# Altium schematic symbol library J.SchLib: 141 symbols (part 1 of 2)
Pins are listed as number, name and electrical type; pins without a type are passive.

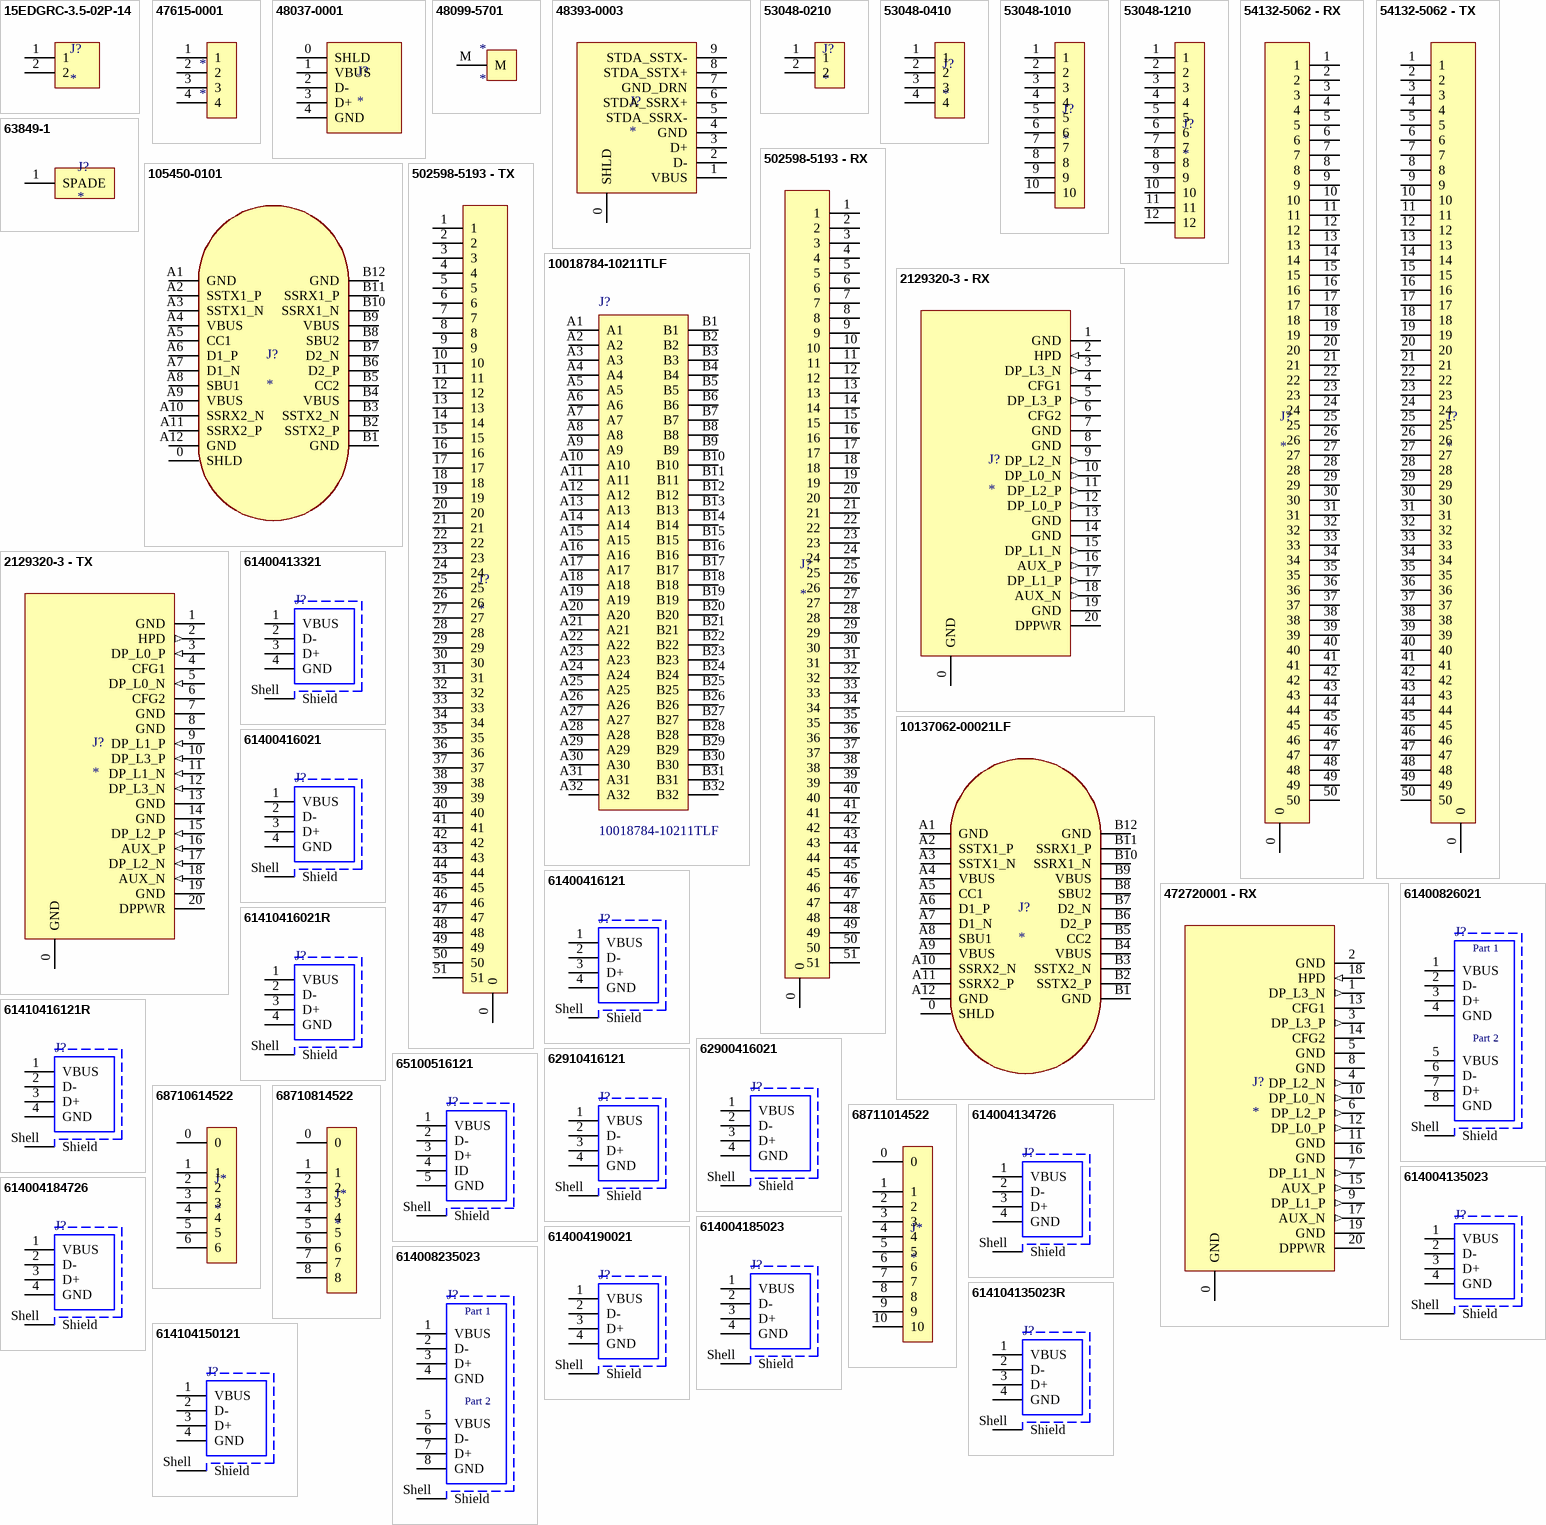
[diagram p0: symbols 15EDGRC-3.5-02P-14 to 614104150121]

## 15EDGRC-3.5-02P-14
designator J?
TERMINAL, SCREW, 3.5MM, 2PIN
footprint TERMINAL_PLUGGABLE_3.5MM_2P_1R (TERMINAL PLUGGABLE 3.5MM 2POS)
pins: 1, 2

## 47615-0001
designator *
Battery Spring x4
footprint 47615-0001 (BATTERY_SPRING 4P)
pins: 1, 2, 3, 4

## 48037-0001
designator J?
USB Connectors USB 2.0 A Male
footprint 48037-0001 (USB 2.0 Type A Plug)
pins: 0 SHLD, 1 VBUS, 2 D-, 3 D+, 4 GND

## 48099-5701
designator *
mPCIE, Latch
footprint 48099-5701
pins: M

## 48393-0003
designator J?
USB Connectors USB 3.0 A
footprint 48393-0003 (USB 3.0 Type A Jack)
pins: 0 SHLD, 1 VBUS, 2 D-, 3 D+, 4 GND, 5 STDA_SSRX-, 6 STDA_SSRX+, 7 GND_DRN, 8 STDA_SSTX+, 9 STDA_SSTX-

## 53048-0210
designator J?
PicoBlade 2PIN RIGHT ANGLE
footprint 53048-0210 (MOLEX PICOBLADE 1.25MM)
pins: 1, 2

## 53048-0410
designator J?
PicoBlade 4PIN RIGHT ANGLE
footprint 53048-0410 (MOLEX PICOBLADE 1.25MM)
pins: 1, 2, 3, 4

## 53048-1010
designator J?
PicoBlade 10PIN RIGHT ANGLE
footprint 53048-1010 (MOLEX PICOBLADE 1.25MM)
pins: 1, 2, 3, 4, 5, 6, 7, 8, 9, 10

## 53048-1210
designator J?
PicoBlade 12PIN RIGHT ANGLE
footprint 53048-1210 (MOLEX PICOBLADE 1.25MM)
pins: 1, 2, 3, 4, 5, 6, 7, 8, 9, 10, 11, 12

## 54132-5062 - RX
designator J?
FFC, 50 PIN - RX
footprint 54132-5062 - RX (Molex 50CKT FFC - RX)
pins: 0, 1, 2, 3, 4, 5, 6, 7, 8, 9, 10, 11, 12, 13, 14, 15, 16, 17, 18, 19, 20, 21, 22, 23, 24, 25, 26, 27, 28, 29, 30, 31, 32, 33, 34, 35, 36, 37, 38, 39, 40, 41, 42, 43, 44, 45, 46, 47, 48, 49, 50

## 54132-5062 - TX
designator J?
FFC, 50 PIN - TX
footprint 54132-5062 - TX (Molex 50CKT FFC - TX)
pins: 0, 1, 2, 3, 4, 5, 6, 7, 8, 9, 10, 11, 12, 13, 14, 15, 16, 17, 18, 19, 20, 21, 22, 23, 24, 25, 26, 27, 28, 29, 30, 31, 32, 33, 34, 35, 36, 37, 38, 39, 40, 41, 42, 43, 44, 45, 46, 47, 48, 49, 50

## 63849-1
designator J?
SPADE Connector, THT, 90°
footprint 63849-1 (SPADE CONNECTOR PCB MOUNT)
pins: 1 SPADE

## 105450-0101
designator J?
MOLEX USB Connectors USB Type C Female
footprint 105450-0101 (MOLEX USB Connectors USB Type C Recep R/A TOPMNT GLD Flash)
pins: 0 SHLD, A1 GND, A2 SSTX1_P, A3 SSTX1_N, A4 VBUS (power), A5 CC1, A6 D1_P, A7 D1_N, A8 SBU1, A9 VBUS (power), A10 SSRX2_N, A11 SSRX2_P, A12 GND, B1 GND, B2 SSTX2_P, B3 SSTX2_N, B4 VBUS (power), B5 CC2, B6 D2_P, B7 D2_N, B8 SBU2, B9 VBUS (power), B10 SSRX1_N, B11 SSRX1_P, B12 GND

## 502598-5193 - RX
designator J?
FFC, 50 PIN - RX
footprint 502598-5193 - RX (FFC & FPC Connectors 0.3 FPC Bck Flip Hsg Assy51CktEmbsTpPkg)
pins: 0, 1, 2, 3, 4, 5, 6, 7, 8, 9, 10, 11, 12, 13, 14, 15, 16, 17, 18, 19, 20, 21, 22, 23, 24, 25, 26, 27, 28, 29, 30, 31, 32, 33, 34, 35, 36, 37, 38, 39, 40, 41, 42, 43, 44, 45, 46, 47, 48, 49, 50, 51

## 502598-5193 - TX
designator J?
FFC, 50 PIN - TX
footprint 502598-5193 - TX (FFC & FPC Connectors 0.3 FPC Bck Flip Hsg Assy51CktEmbsTpPkg)
pins: 0, 1, 2, 3, 4, 5, 6, 7, 8, 9, 10, 11, 12, 13, 14, 15, 16, 17, 18, 19, 20, 21, 22, 23, 24, 25, 26, 27, 28, 29, 30, 31, 32, 33, 34, 35, 36, 37, 38, 39, 40, 41, 42, 43, 44, 45, 46, 47, 48, 49, 50, 51

## 2129320-3 - RX
designator J?
Displayport, Mini, Reverse Offset, RX
footprint 2129320-3 (Mini Displayport)
pins: 0 GND, 1 GND, 2 HPD (in), 3 DP_L3_N (out), 4 CFG1, 5 DP_L3_P (out), 6 CFG2, 7 GND, 8 GND (power), 9 DP_L2_N (out), 10 DP_L0_N (out), 11 DP_L2_P (out), 12 DP_L0_P (out), 13 GND, 14 GND, 15 DP_L1_N (out), 16 AUX_P (out), 17 DP_L1_P (out), 18 AUX_N (out), 19 GND, 20 DPPWR (power)

## 2129320-3 - TX
designator J?
Displayport, Mini, Reverse Offset, TX
footprint 2129320-3 (Mini Displayport)
pins: 0 GND, 1 GND, 2 HPD (out), 3 DP_L0_P (in), 4 CFG1, 5 DP_L0_N (in), 6 CFG2, 7 GND, 8 GND (power), 9 DP_L1_P (in), 10 DP_L3_P (in), 11 DP_L1_N (in), 12 DP_L3_N (in), 13 GND, 14 GND, 15 DP_L2_P (in), 16 AUX_P (in), 17 DP_L2_N (in), 18 AUX_N (in), 19 GND, 20 DPPWR (power)

## 10018784-10211TLF
designator J?
PCIE x4 Vertical 1.00mm Card; MP: PCIE-064-02-X-D-TH; MF: Samtec; Package: None; Price: None; Availability: Unavailable; Value: *
footprint 10018784-10211TLF (PCIE x4 Vertical)
pins: A1, A2, A3, A4, A5, A6, A7, A8, A9, A10, A11, A12, A13, A14, A15, A16, A17, A18, A19, A20, A21, A22, A23, A24, A25, A26, A27, A28, A29, A30, A31, A32, B1, B2, B3, B4, B5, B6, B7, B8, B9, B10, B11, B12, B13, B14, B15, B16, B17, B18, B19, B20, B21, B22, B23, B24, B25, B26, B27, B28, B29, B30, B31, B32

## 10137062-00021LF
designator J?
USB, Type C, Amphenol Female, THT, 90°
footprint 10137062-00021LF (USB Type C Connectors Amphenol - T.H.)
pins: 0 SHLD, A1 GND, A2 SSTX1_P, A3 SSTX1_N, A4 VBUS (power), A5 CC1, A6 D1_P, A7 D1_N, A8 SBU1, A9 VBUS (power), A10 SSRX2_N, A11 SSRX2_P, A12 GND, B1 GND, B2 SSTX2_P, B3 SSTX2_N, B4 VBUS (power), B5 CC2, B6 D2_P, B7 D2_N, B8 SBU2, B9 VBUS (power), B10 SSRX1_N, B11 SSRX1_P, B12 GND

## 472720001 - RX
designator J?
Displayport, RX
footprint 472720001 (CONN RCPT DISPLAYPORT 20P SMD RA)
pins: 0 GND, 1 DP_L3_N (out), 2 GND, 3 DP_L3_P (out), 4 DP_L2_N (out), 5 GND, 6 DP_L2_P (out), 7 DP_L1_N (out), 8 GND (power), 9 DP_L1_P (out), 10 DP_L0_N (out), 11 GND, 12 DP_L0_P (out), 13 CFG1, 14 CFG2, 15 AUX_P (out), 16 GND, 17 AUX_N (out), 18 HPD (in), 19 GND, 20 DPPWR (power)

## 61400413321
designator J?
USB 2.0 Type B Receptacle WR-COM, Vertical, THT; Part Number: 61400413321; Rated Current: 1.5 A; Contact Resistance: 20 mOhm; Working Voltage: 30 VAC; ComponentLink1Description: Manufacturer; ComponentLink1URL: http://www.we-online.de; ComponentLink2Description: Datasheet; ComponentLink2URL: https://katalog.we-online.de/em/datasheet/61400413321.pdf; Published Date: September 2018; Publisher: Wurth Elektronik; Orientation: Vertical; Connector Type: USB 2.0 Type B; Operating Temperature: -40 to 105 degC; Mounting Technology: THT; Gender: Receptacle; Packaging: Tray
footprint 61400413321
pins: 1 VBUS, 2 D-, 3 D+, 4 GND, Shell Shield

## 61400416021
designator J?
USB 2.0 Type A Receptacle WR-COM, Horizontal, THT; Part Number: 61400416021; Rated Current: 1.5 A; Contact Resistance: 20 mOhm; Working Voltage: 30 VAC; ComponentLink1Description: Manufacturer; ComponentLink1URL: http://www.we-online.de; ComponentLink2Description: Datasheet; ComponentLink2URL: https://katalog.we-online.de/em/datasheet/61400416021.pdf; Published Date: September 2018; Publisher: Wurth Elektronik; Orientation: Horizontal; Connector Type: USB 2.0 Type A; Operating Temperature: -40 to 105 degC; Mounting Technology: THT; Gender: Receptacle; Packaging: Tray
footprint 61400416021
pins: 1 VBUS, 2 D-, 3 D+, 4 GND, Shell Shield

## 61400416121
designator J?
USB 2.0 Type B Receptacle WR-COM, Horizontal, THT, with Pads and Pegs; Part Number: 61400416121; Rated Current: 1.5 A; Contact Resistance: 20 mOhm; Working Voltage: 30 VAC; ComponentLink1Description: Manufacturer; ComponentLink1URL: http://www.we-online.de; ComponentLink2Description: Datasheet; ComponentLink2URL: https://katalog.we-online.de/em/datasheet/61400416121.pdf; Published Date: September 2018; Publisher: Wurth Elektronik; Orientation: Horizontal; Connector Type: USB 2.0 Type B; Operating Temperature: -40 to 105 degC; Mounting Technology: THT; Gender: Receptacle; Packaging: Tray
footprint 61400416121
pins: 1 VBUS, 2 D-, 3 D+, 4 GND, Shell Shield

## 61400826021
designator J?
USB 2.0 Type A Receptacle WR-COM, Stacked Horizontal, THT; Part Number: 61400826021; Rated Current: 1.5 A; Contact Resistance: 20 mOhm; Working Voltage: 30 VAC; ComponentLink1Description: Manufacturer; ComponentLink1URL: http://www.we-online.de; ComponentLink2Description: Datasheet; ComponentLink2URL: https://katalog.we-online.de/em/datasheet/61400826021.pdf; Published Date: September 2018; Publisher: Wurth Elektronik; Orientation: Stacked Horizontal; Connector Type: USB 2.0 Type A; Operating Temperature: -40 to 105 degC; Mounting Technology: THT; Gender: Receptacle; Packaging: Tray
footprint 61400826021
pins: 1 VBUS, 2 D-, 3 D+, 4 GND, 5 VBUS, 6 D-, 7 D+, 8 GND, Shell Shield
text: Part 1; Part 2

## 61410416021R
designator J?
USB 2.0 Type A Receptacle WR-COM, Horizontal, SMT; Part Number: 61410416021R; Rated Current: 1.5 A; Contact Resistance: 30 mOhm; Working Voltage: 30 VAC; ComponentLink1Description: Manufacturer; ComponentLink1URL: http://www.we-online.de; ComponentLink2Description: Datasheet; ComponentLink2URL: https://katalog.we-online.de/em/datasheet/61410416021R.pdf; Published Date: September 2018; Publisher: Wurth Elektronik; Orientation: Horizontal; Connector Type: USB 2.0 Type A; Operating Temperature: -55 to 85 degC; Mounting Technology: SMT; Gender: Receptacle; Packaging: Tape and Reel
footprint 61410416021R
pins: 1 VBUS, 2 D-, 3 D+, 4 GND, Shell Shield

## 61410416121R
designator J?
USB 2.0 Type B Receptacle WR-COM, Horizontal, SMT; Part Number: 61410416121R; Rated Current: 1.5 A; Contact Resistance: 30 mOhm; Working Voltage: 30 VAC; ComponentLink1Description: Manufacturer; ComponentLink1URL: http://www.we-online.de; ComponentLink2Description: Datasheet; ComponentLink2URL: https://katalog.we-online.de/em/datasheet/61410416121R.pdf; Published Date: September 2018; Publisher: Wurth Elektronik; Orientation: Horizontal; Connector Type: USB 2.0 Type B; Operating Temperature: -55 to 85 degC; Mounting Technology: SMT; Gender: Receptacle; Packaging: Tape and Reel
footprint 61410416121R
pins: 1 VBUS, 2 D-, 3 D+, 4 GND, Shell Shield

## 62900416021
designator J?
USB 2.0 Type A Receptacle WR-COM, Horizontal, SMT; Part Number: 62900416021; Rated Current: 1.5 A; Contact Resistance: 20 mOhm; Working Voltage: 30 VAC; ComponentLink1Description: Manufacturer; ComponentLink1URL: http://www.we-online.de; ComponentLink2Description: Datasheet; ComponentLink2URL: https://katalog.we-online.de/em/datasheet/62900416021.pdf; Published Date: September 2018; Publisher: Wurth Elektronik; Orientation: Horizontal; Connector Type: USB 2.0 Type A; Operating Temperature: -40 to 105 degC; Mounting Technology: SMT; Gender: Receptacle; Packaging: Tray
footprint 62900416021
pins: 1 VBUS, 2 D-, 3 D+, 4 GND, Shell Shield

## 62910416121
designator J?
USB 2.0 Type B Receptacle WR-COM, Horizontal, SMT, with Pads and Pegs; Part Number: 62910416121; Rated Current: 1.5 A; Contact Resistance: 20 mOhm; Working Voltage: 30 VAC; ComponentLink1Description: Manufacturer; ComponentLink1URL: http://www.we-online.de; ComponentLink2Description: Datasheet; ComponentLink2URL: https://katalog.we-online.de/em/datasheet/62910416121.pdf; Published Date: September 2018; Publisher: Wurth Elektronik; Orientation: Horizontal; Connector Type: USB 2.0 Type B; Operating Temperature: -40 to 105 degC; Mounting Technology: SMT; Gender: Receptacle; Packaging: Tape and Reel
footprint 62910416121
pins: 1 VBUS, 2 D-, 3 D+, 4 GND, Shell Shield

## 65100516121
designator J?
Mini USB 2.0 Type B Receptacle WR-COM, Horizontal, SMT, with Pads and Pegs; Part Number: 65100516121; Rated Current: 1 A; Contact Resistance: 20 mOhm; Working Voltage: 30 VAC; ComponentLink1Description: Manufacturer; ComponentLink1URL: http://www.we-online.de; ComponentLink2Description: Datasheet; ComponentLink2URL: https://katalog.we-online.de/em/datasheet/65100516121.pdf; Published Date: September 2018; Publisher: Wurth Elektronik; Orientation: Horizontal; Connector Type: Mini USB 2.0 Type B; Operating Temperature: -40 to 105 degC; Mounting Technology: SMT; Gender: Receptacle; Packaging: Tape and Reel
footprint 65100516121
pins: 1 VBUS, 2 D-, 3 D+, 4 ID, 5 GND, Shell Shield

## 68710614522
designator J*
FFC, 6P, 0.5mm, Bottom Contact, Wurth
footprint 68710614522 (FFC, 6P, 0.5mm, Bottom Contact, Wurth)
pins: 0, 1, 2, 3, 4, 5, 6

## 68710814522
designator J*
FFC, 8P, 0.5mm, Bottom Contact, Wurth
footprint 68710814522 (FFC, 8P, 0.5mm, Bottom Contact, Wurth)
pins: 0, 1, 2, 3, 4, 5, 6, 7, 8

## 68711014522
designator J*
FFC, 10P, 0.5mm, Bottom Contact, Wurth
footprint 68711014522 (FFC, 10P, 0.5mm, Bottom Contact, Wurth)
pins: 0, 1, 2, 3, 4, 5, 6, 7, 8, 9, 10

## 614004134726
designator J?
USB 2.0 Type A Receptacle WR-COM, Up Right, THT; Part Number: 614004134726; Rated Current: 1.5 A; Contact Resistance: 20 mOhm; Working Voltage: 30 VAC; ComponentLink1Description: Manufacturer; ComponentLink1URL: http://www.we-online.de; ComponentLink2Description: Datasheet; ComponentLink2URL: https://katalog.we-online.de/em/datasheet/614004134726.pdf; Published Date: September 2018; Publisher: Wurth Elektronik; Orientation: Up Right; Connector Type: USB 2.0 Type A; Operating Temperature: -40 to 105 degC; Mounting Technology: THT; Gender: Receptacle; Packaging: Tray
footprint 614004134726
pins: 1 VBUS, 2 D-, 3 D+, 4 GND, Shell Shield

## 614004135023
designator J?
USB 2.0 Type A Receptacle WR-COM, Vertical, THT; Part Number: 614004135023; Rated Current: 1.5 A; Contact Resistance: 20 mOhm; Working Voltage: 30 VAC; ComponentLink1Description: Manufacturer; ComponentLink1URL: http://www.we-online.de; ComponentLink2Description: Datasheet; ComponentLink2URL: https://katalog.we-online.de/em/datasheet/614004135023.pdf; Published Date: September 2018; Publisher: Wurth Elektronik; Orientation: Vertical; Connector Type: USB 2.0 Type A; Operating Temperature: -40 to 105 degC; Mounting Technology: THT; Gender: Receptacle; Packaging: Tray
footprint 614004135023
pins: 1 VBUS, 2 D-, 3 D+, 4 GND, Shell Shield

## 614004184726
designator J?
USB 2.0 Type A Receptacle WR-COM, Up Right, THT, Short Type; Part Number: 614004184726; Rated Current: 2 A; Contact Resistance: 30 mOhm; Working Voltage: 30 VAC; ComponentLink1Description: Manufacturer; ComponentLink1URL: http://www.we-online.de; ComponentLink2Description: Datasheet; ComponentLink2URL: https://katalog.we-online.de/em/datasheet/614004184726.pdf; Published Date: September 2018; Publisher: Wurth Elektronik; Orientation: Up Right; Connector Type: USB 2.0 Type A; Operating Temperature: -40 to 85 degC; Mounting Technology: THT; Gender: Receptacle; Packaging: Tray
footprint 614004184726
pins: 1 VBUS, 2 D-, 3 D+, 4 GND, Shell Shield

## 614004185023
designator J?
USB 2.0 Type A Receptacle WR-COM, Vertical, THT, Short Type; Part Number: 614004185023; Rated Current: 1.5 A; Contact Resistance: 30 mOhm; Working Voltage: 30 VAC; ComponentLink1Description: Manufacturer; ComponentLink1URL: http://www.we-online.de; ComponentLink2Description: Datasheet; ComponentLink2URL: https://katalog.we-online.de/em/datasheet/614004185023.pdf; Published Date: September 2018; Publisher: Wurth Elektronik; Orientation: Vertical; Connector Type: USB 2.0 Type A; Operating Temperature: -55 to 85 degC; Mounting Technology: THT; Gender: Receptacle; Packaging: Tray
footprint 614004185023
pins: 1 VBUS, 2 D-, 3 D+, 4 GND, Shell Shield

## 614004190021
designator J?
USB 2.0 Type A Receptacle WR-COM, Horizontal, THT, with High Current at Pin 1 & 4; Part Number: 614004190021; Rated Current: 3 A; Contact Resistance: 30 mOhm; Working Voltage: 30 VAC; ComponentLink1Description: Manufacturer; ComponentLink1URL: http://www.we-online.de; ComponentLink2Description: Datasheet; ComponentLink2URL: https://katalog.we-online.de/em/datasheet/614004190021.pdf; Published Date: September 2018; Publisher: Wurth Elektronik; Orientation: Horizontal; Connector Type: USB 2.0 Type A; Operating Temperature: -40 to 85 degC; Mounting Technology: THT; Gender: Receptacle; Packaging: Tray
footprint 614004190021
pins: 1 VBUS, 2 D-, 3 D+, 4 GND, Shell Shield

## 614008235023
designator J?
USB 2.0 Type A Receptacle WR-COM, Stacked Vertical, THT; Part Number: 614008235023; Rated Current: 1.5 A; Contact Resistance: 20 mOhm; Working Voltage: 30 VAC; ComponentLink1Description: Manufacturer; ComponentLink1URL: http://www.we-online.de; ComponentLink2Description: Datasheet; ComponentLink2URL: https://katalog.we-online.de/em/datasheet/614008235023.pdf; Published Date: September 2018; Publisher: Wurth Elektronik; Orientation: Stacked Vertical; Connector Type: USB 2.0 Type A; Operating Temperature: -40 to 105 degC; Mounting Technology: THT; Gender: Receptacle; Packaging: Tray
footprint 614008235023
pins: 1 VBUS, 2 D-, 3 D+, 4 GND, 5 VBUS, 6 D-, 7 D+, 8 GND, Shell Shield
text: Part 1; Part 2

## 614104135023R
designator J?
USB 2.0 Type A Receptacle WR-COM, Vertical, SMT; Part Number: 614104135023R; Rated Current: 1.5 A; Contact Resistance: 30 mOhm; Working Voltage: 30 VAC; ComponentLink1Description: Manufacturer; ComponentLink1URL: http://www.we-online.de; ComponentLink2Description: Datasheet; ComponentLink2URL: https://katalog.we-online.de/em/datasheet/614104135023R.pdf; Published Date: September 2018; Publisher: Wurth Elektronik; Orientation: Vertical; Connector Type: USB 2.0 Type A; Operating Temperature: -55 to 85 degC; Mounting Technology: SMT; Gender: Receptacle; Packaging: Tape and Reel
footprint 614104135023R
pins: 1 VBUS, 2 D-, 3 D+, 4 GND, Shell Shield

## 614104150121
designator J?
USB 2.0 Type A Receptacle WR-COM, Horizontal, THT, with Clips; Part Number: 614104150121; Rated Current: 1.5 A; Contact Resistance: 30 mOhm; Working Voltage: 30 VAC; ComponentLink1Description: Manufacturer; ComponentLink1URL: http://www.we-online.de; ComponentLink2Description: Datasheet; ComponentLink2URL: https://katalog.we-online.de/em/datasheet/614104150121%282%29.pdf; Published Date: September 2018; Publisher: Wurth Elektronik; Orientation: Horizontal; Connector Type: USB 2.0 Type A; Operating Temperature: -40 to 85 degC; Mounting Technology: THT; Gender: Receptacle; Packaging: Tape and Reel
footprint 614104150121
pins: 1 VBUS, 2 D-, 3 D+, 4 GND, Shell Shield

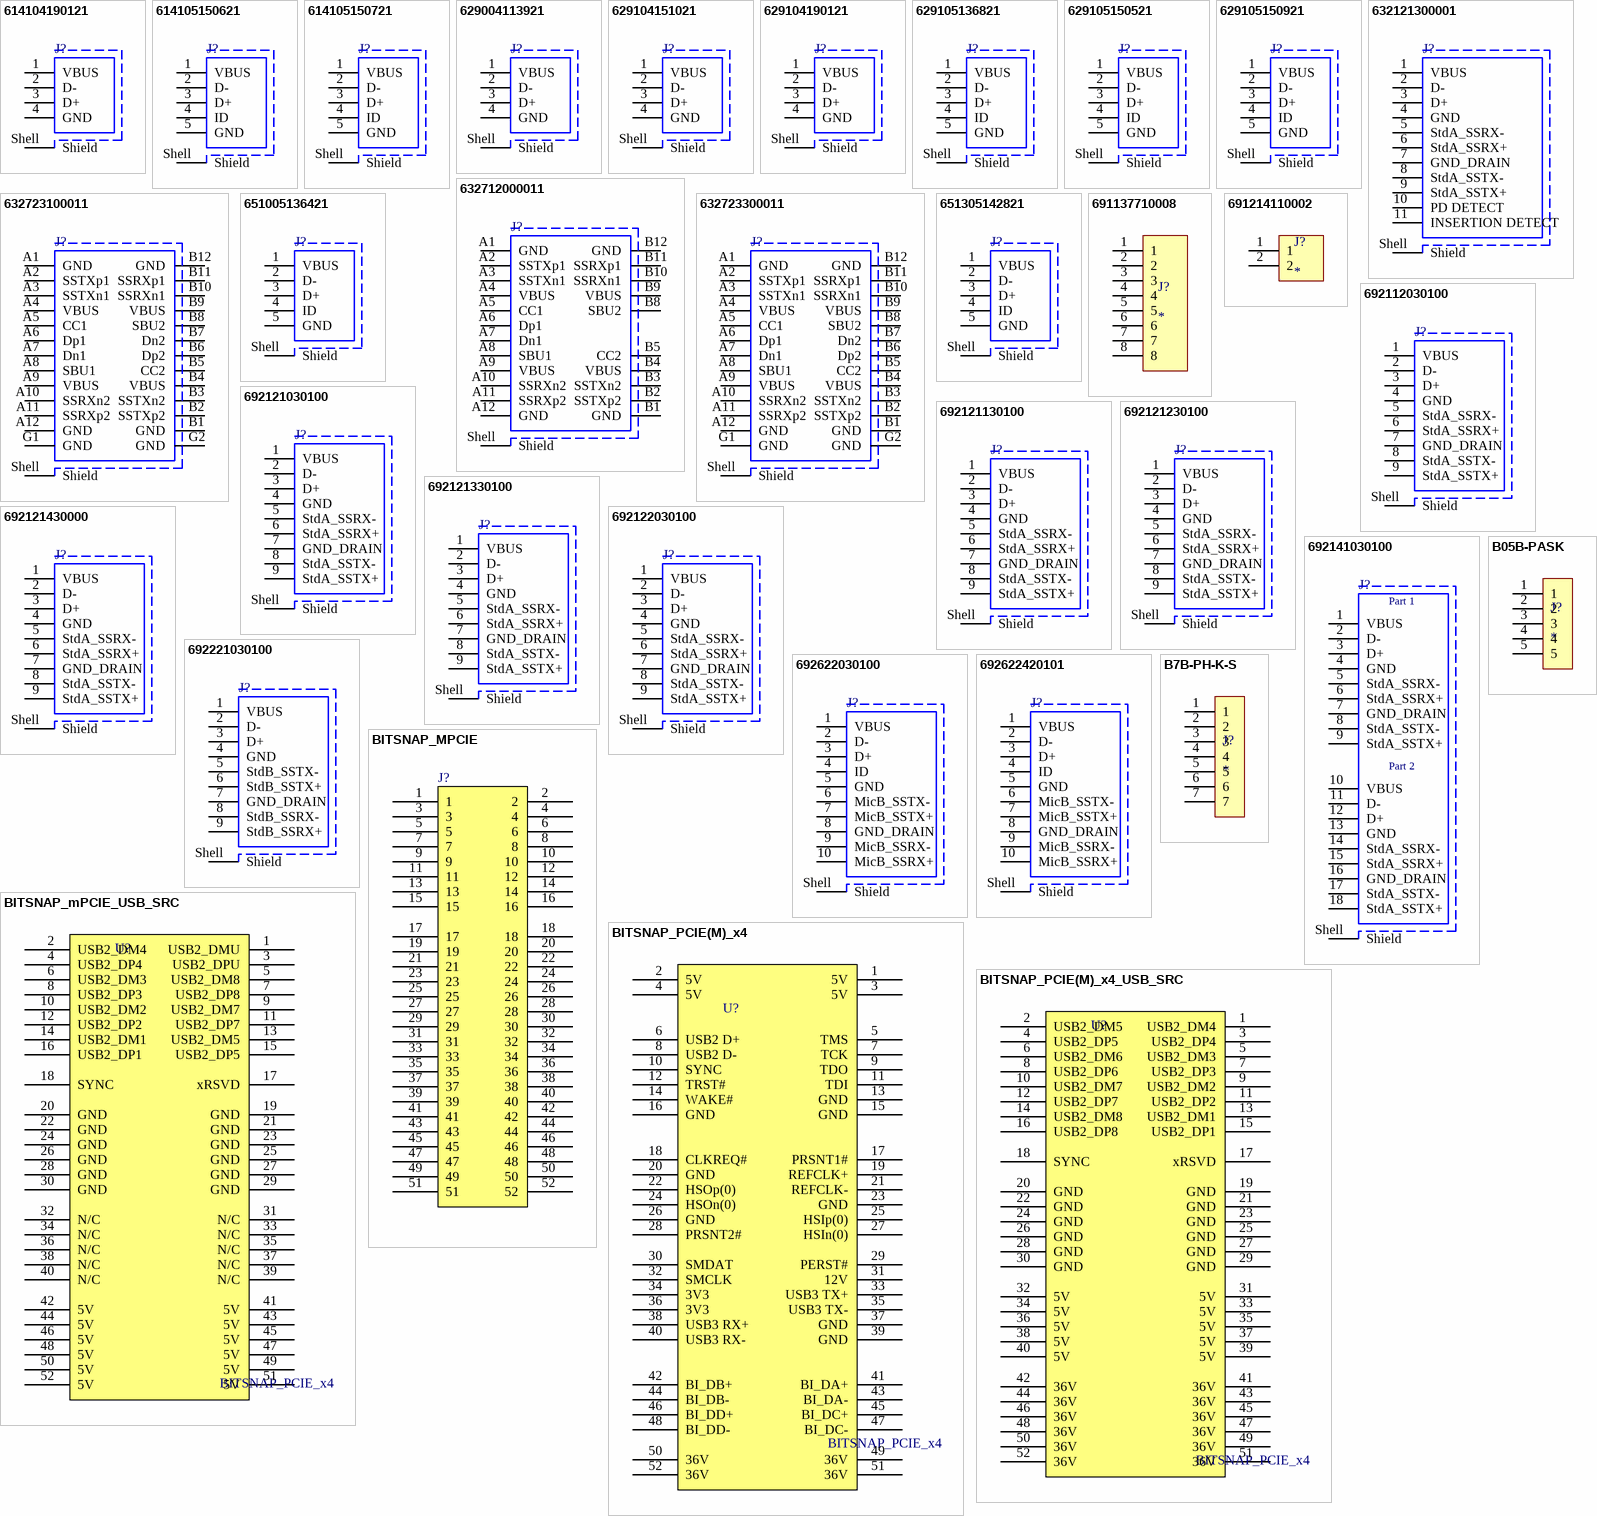
[diagram p1: symbols 614104190121 to BITSNAP_PCIE(M)_x4_USB_SRC]

## 614104190121
designator J?
USB 2.0 Type A Receptacle WR-COM, Horizontal, THT, Short Type with Clips; Part Number: 614104190121; Rated Current: 1.5 A; Contact Resistance: 30 mOhm; Working Voltage: 30 VAC; ComponentLink1Description: Manufacturer; ComponentLink1URL: http://www.we-online.de; ComponentLink2Description: Datasheet; ComponentLink2URL: https://katalog.we-online.de/em/datasheet/614104190121.pdf; Published Date: September 2018; Publisher: Wurth Elektronik; Orientation: Horizontal; Connector Type: USB 2.0 Type A; Operating Temperature: -55 to 85 degC; Mounting Technology: THT; Gender: Receptacle; Packaging: Tape and Reel
footprint 614104190121
pins: 1 VBUS, 2 D-, 3 D+, 4 GND, Shell Shield

## 614105150621
designator J?
Micro USB 2.0 Type AB Receptacle WR-COM, Vertical, THT; Part Number: 614105150621; Rated Current: 1.8 A; Contact Resistance: 30 mOhm; Working Voltage: 30 VAC; ComponentLink1Description: Manufacturer; ComponentLink1URL: http://www.we-online.de; ComponentLink2Description: Datasheet; ComponentLink2URL: https://katalog.we-online.de/em/datasheet/614105150621.pdf; Published Date: September 2018; Publisher: Wurth Elektronik; Orientation: Vertical; Connector Type: Micro USB 2.0 Type AB; Operating Temperature: -40 to 85 degC; Mounting Technology: THT; Gender: Receptacle; Packaging: Tape and Reel
footprint 614105150621
pins: 1 VBUS, 2 D-, 3 D+, 4 ID, 5 GND, Shell Shield

## 614105150721
designator J?
Micro USB 2.0 Type B Receptacle WR-COM, Vertical, THT; Part Number: 614105150721; Rated Current: 1.8 A; Contact Resistance: 30 mOhm; Working Voltage: 30 VAC; ComponentLink1Description: Manufacturer; ComponentLink1URL: http://www.we-online.de; ComponentLink2Description: Datasheet; ComponentLink2URL: https://katalog.we-online.de/em/datasheet/614105150721.pdf; Published Date: September 2018; Publisher: Wurth Elektronik; Orientation: Vertical; Connector Type: Micro USB 2.0 Type B; Operating Temperature: -40 to 85 degC; Mounting Technology: THT; Gender: Receptacle; Packaging: Tape and Reel
footprint 614105150721
pins: 1 VBUS, 2 D-, 3 D+, 4 ID, 5 GND, Shell Shield

## 629004113921
designator J?
USB 2.0 Type A Plug WR-COM, Horizontal, SMT, with Clips; Part Number: 629004113921; Rated Current: 1.5 A; Contact Resistance: 20 mOhm; Working Voltage: 30 VAC; ComponentLink1Description: Manufacturer; ComponentLink1URL: http://www.we-online.de; ComponentLink2Description: Datasheet; ComponentLink2URL: https://katalog.we-online.de/em/datasheet/629004113921.pdf; Published Date: September 2018; Publisher: Wurth Elektronik; Orientation: Horizontal; Connector Type: USB 2.0 Type A; Operating Temperature: -40 to 105 degC; Mounting Technology: SMT; Gender: Plug; Packaging: Tube
footprint 629004113921
pins: 1 VBUS, 2 D-, 3 D+, 4 GND, Shell Shield

## 629104151021
designator J?
USB 2.0 Type A Receptacle WR-COM, Horizontal, SMT, with Pegs; Part Number: 629104151021; Rated Current: 1.5 A; Contact Resistance: 30 mOhm; Working Voltage: 30 VAC; ComponentLink1Description: Manufacturer; ComponentLink1URL: http://www.we-online.de; ComponentLink2Description: Datasheet; ComponentLink2URL: https://katalog.we-online.de/em/datasheet/629104151021.pdf; Published Date: September 2018; Publisher: Wurth Elektronik; Orientation: Horizontal; Connector Type: USB 2.0 Type A; Operating Temperature: -40 to 85 degC; Mounting Technology: SMT; Gender: Receptacle; Packaging: Tape and Reel
footprint 629104151021
pins: 1 VBUS, 2 D-, 3 D+, 4 GND, Shell Shield

## 629104190121
designator J?
USB 2.0 Type A Receptacle WR-COM, Horizontal, SMT, Short Type with Pads and Pegs; Part Number: 629104190121; Rated Current: 1.5 A; Contact Resistance: 30 mOhm; Working Voltage: 30 VAC; ComponentLink1Description: Manufacturer; ComponentLink1URL: http://www.we-online.de; ComponentLink2Description: Datasheet; ComponentLink2URL: https://katalog.we-online.de/em/datasheet/629104190121.pdf; Published Date: September 2018; Publisher: Wurth Elektronik; Orientation: Horizontal; Connector Type: USB 2.0 Type A; Operating Temperature: -40 to 85 degC; Mounting Technology: SMT; Gender: Receptacle; Packaging: Tape and Reel
footprint 629104190121
pins: 1 VBUS, 2 D-, 3 D+, 4 GND, Shell Shield

## 629105136821
designator J?
Micro USB 2.0 Type B Receptacle WR-COM, Horizontal, SMT, with Pads and Pegs; Part Number: 629105136821; Rated Current: 1 A; Contact Resistance: 30 mOhm; Working Voltage: 30 VAC; ComponentLink1Description: Manufacturer; ComponentLink1URL: http://www.we-online.de; ComponentLink2Description: Datasheet; ComponentLink2URL: https://katalog.we-online.de/em/datasheet/629105136821.pdf; Published Date: September 2018; Publisher: Wurth Elektronik; Orientation: Horizontal; Connector Type: Micro USB 2.0 Type B; Operating Temperature: -40 to 105 degC; Mounting Technology: SMT; Gender: Receptacle; Packaging: Tape and Reel
footprint 629105136821
pins: 1 VBUS, 2 D-, 3 D+, 4 ID, 5 GND, Shell Shield

## 629105150521
designator J?
Micro USB 2.0 Type B Receptacle WR-COM, Horizontal, SMT, with Pegs, High Current at Pin 1 & Pin 5; Part Number: 629105150521; Rated Current: 3 A; Contact Resistance: 30 mOhm; Working Voltage: 30 VAC; ComponentLink1Description: Manufacturer; ComponentLink1URL: http://www.we-online.de; ComponentLink2Description: Datasheet; ComponentLink2URL: https://katalog.we-online.de/em/datasheet/629105150521.pdf; Published Date: September 2018; Publisher: Wurth Elektronik; Orientation: Horizontal; Connector Type: Micro USB 2.0 Type B; Operating Temperature: -40 to 85 degC; Mounting Technology: SMT; Gender: Receptacle; Packaging: Tape and Reel
footprint 629105150521
pins: 1 VBUS, 2 D-, 3 D+, 4 ID, 5 GND, Shell Shield

## 629105150921
designator J?
Micro USB 2.0 Type AB Receptacle WR-COM, Horizontal, SMT; Part Number: 629105150921; Rated Current: 1.8 A; Contact Resistance: 30 mOhm; Working Voltage: 30 VAC; ComponentLink1Description: Manufacturer; ComponentLink1URL: http://www.we-online.de; ComponentLink2Description: Datasheet; ComponentLink2URL: https://katalog.we-online.de/em/datasheet/629105150921.pdf; Published Date: September 2018; Publisher: Wurth Elektronik; Orientation: Horizontal; Connector Type: Micro USB 2.0 Type AB; Operating Temperature: -40 to 85 degC; Mounting Technology: SMT; Gender: Receptacle; Packaging: Tape and Reel
footprint 629105150921
pins: 1 VBUS, 2 D-, 3 D+, 4 ID, 5 GND, Shell Shield

## 632121300001
designator J?
USB 3.1 Type A Receptacle WR-COM, Horizontal, THT; Part Number: 632121300001; Rated Current: 5 A; Contact Resistance: 50 mOhm; Working Voltage: 20 VDC; ComponentLink1Description: Manufacturer; ComponentLink1URL: http://www.we-online.de; ComponentLink2Description: Datasheet; ComponentLink2URL: https://katalog.we-online.de/em/datasheet/632121300001.pdf; Published Date: September 2018; Publisher: Wurth Elektronik; Orientation: Horizontal; Connector Type: USB 3.1 Type A; Operating Temperature: -20 to 85 degC; Mounting Technology: THT; Gender: Receptacle; Packaging: Tray
footprint 632121300001
pins: 1 VBUS, 2 D-, 3 D+, 4 GND, 5 StdA_SSRX-, 6 StdA_SSRX+, 7 GND_DRAIN, 8 StdA_SSTX-, 9 StdA_SSTX+, 10 PD DETECT, 11 INSERTION DETECT, Shell Shield

## 632712000011
designator J?
USB 3.1 Type C Plug WR-COM, Horizontal, SMT; Part Number: 632712000011; Rated Current: 5 A; Contact Resistance: 30 mOhm; Working Voltage: 20 VDC; ComponentLink1Description: Manufacturer; ComponentLink1URL: http://www.we-online.de; ComponentLink2Description: Datasheet; ComponentLink2URL: https://katalog.we-online.de/em/datasheet/632712000011.pdf; Published Date: September 2018; Publisher: Wurth Elektronik; Orientation: Horizontal; Connector Type: USB 3.1 Type C; Operating Temperature: -25 to 105 degC; Mounting Technology: SMT; Gender: Plug; Packaging: Tape and Reel
footprint 632712000011
pins: A1 GND, A2 SSTXp1, A3 SSTXn1, A4 VBUS, A5 CC1, A6 Dp1, A7 Dn1, A8 SBU1, A9 VBUS, A10 SSRXn2, A11 SSRXp2, A12 GND, B1 GND, B2 SSTXp2, B3 SSTXn2, B4 VBUS, B5 CC2, B8 SBU2, B9 VBUS, B10 SSRXn1, B11 SSRXp1, B12 GND, Shell Shield

## 632723100011
designator J?
USB 3.1 Type C Receptacle WR-COM, Horizontal, SMT / THT; Part Number: 632723100011; Rated Current: 5 A; Contact Resistance: 30 mOhm; Working Voltage: 20 VDC; ComponentLink1Description: Manufacturer; ComponentLink1URL: http://www.we-online.de; ComponentLink2Description: Datasheet; ComponentLink2URL: https://katalog.we-online.de/em/datasheet/632723x00011%282%29.pdf; Published Date: September 2018; Publisher: Wurth Elektronik; Orientation: Horizontal; Connector Type: USB 3.1 Type C; Operating Temperature: -40 to 105 degC; Mounting Technology: SMT / THT; Gender: Receptacle; Packaging: Tape and Reel
footprint 632723100011
pins: A1 GND, A2 SSTXp1, A3 SSTXn1, A4 VBUS, A5 CC1, A6 Dp1, A7 Dn1, A8 SBU1, A9 VBUS, A10 SSRXn2, A11 SSRXp2, A12 GND, B1 GND, B2 SSTXp2, B3 SSTXn2, B4 VBUS, B5 CC2, B6 Dp2, B7 Dn2, B8 SBU2, B9 VBUS, B10 SSRXn1, B11 SSRXp1, B12 GND, G1 GND, G2 GND, Shell Shield

## 632723300011
designator J?
USB 3.1 Type C Receptacle WR-COM, Horizontal, SMT / THT; Part Number: 632723300011; Rated Current: 5 A; Contact Resistance: 30 mOhm; Working Voltage: 20 VDC; ComponentLink1Description: Manufacturer; ComponentLink1URL: http://www.we-online.de; ComponentLink2Description: Datasheet; ComponentLink2URL: https://katalog.we-online.de/em/datasheet/632723x00011%282%29.pdf; Published Date: September 2018; Publisher: Wurth Elektronik; Orientation: Horizontal; Connector Type: USB 3.1 Type C; Operating Temperature: -40 to 105 degC; Mounting Technology: SMT / THT; Gender: Receptacle; Packaging: Tape and Reel
footprint 632723300011
pins: A1 GND, A2 SSTXp1, A3 SSTXn1, A4 VBUS, A5 CC1, A6 Dp1, A7 Dn1, A8 SBU1, A9 VBUS, A10 SSRXn2, A11 SSRXp2, A12 GND, B1 GND, B2 SSTXp2, B3 SSTXn2, B4 VBUS, B5 CC2, B6 Dp2, B7 Dn2, B8 SBU2, B9 VBUS, B10 SSRXn1, B11 SSRXp1, B12 GND, G1 GND, G2 GND, Shell Shield

## 651005136421
designator J?
Mini USB 2.0 Type B Receptacle WR-COM, Vertical, THT; Part Number: 651005136421; Rated Current: 1 A; Contact Resistance: 20 mOhm; Working Voltage: 30 VAC; ComponentLink1Description: Manufacturer; ComponentLink1URL: http://www.we-online.de; ComponentLink2Description: Datasheet; ComponentLink2URL: https://katalog.we-online.de/em/datasheet/651005136421%282%29.pdf; Published Date: September 2018; Publisher: Wurth Elektronik; Orientation: Vertical; Connector Type: Mini USB 2.0 Type B; Operating Temperature: -40 to 105 degC; Mounting Technology: THT; Gender: Receptacle; Packaging: Tray
footprint 651005136421
pins: 1 VBUS, 2 D-, 3 D+, 4 ID, 5 GND, Shell Shield

## 651305142821
designator J?
Mini USB 2.0 Type AB Receptacle WR-COM, Horizontal, SMT, with Pads; Part Number: 651305142821; Rated Current: 1 A; Contact Resistance: 20 mOhm; Working Voltage: 30 VAC; ComponentLink1Description: Manufacturer; ComponentLink1URL: http://www.we-online.de; ComponentLink2Description: Datasheet; ComponentLink2URL: https://katalog.we-online.de/em/datasheet/651305142821.pdf; Published Date: September 2018; Publisher: Wurth Elektronik; Orientation: Horizontal; Connector Type: Mini USB 2.0 Type AB; Operating Temperature: -40 to 105 degC; Mounting Technology: SMT; Gender: Receptacle; Packaging: Tape and Reel
footprint 651305142821
pins: 1 VBUS, 2 D-, 3 D+, 4 ID, 5 GND, Shell Shield

## 691137710008
designator J?
TERMINAL, SCREW, 5MM, 8PIN
footprint TERMINAL_PLUGGABLE_3.5MM_2P_1R (TERMINAL PLUGGABLE 3.5MM 2POS)
pins: 1, 2, 3, 4, 5, 6, 7, 8

## 691214110002
designator J?
TERMINAL, SCREW, 3.5MM, 2PIN
footprint TERMINAL_SCREW_3.5MM_2P_1R (SCREW TERMINAL 3.5MM 2POS)
pins: 1, 2

## 692112030100
designator J?
USB 3.0 Type A Plug WR-COM, Horizontal, SMT, with Pegs and Clips; Part Number: 692112030100; Rated Current: 0.25 A; Contact Resistance: 50 mOhm; Working Voltage: 30 VAC; ComponentLink1Description: Manufacturer; ComponentLink1URL: http://www.we-online.de; ComponentLink2Description: Datasheet; ComponentLink2URL: https://katalog.we-online.de/em/datasheet/692112030100.pdf; Published Date: September 2018; Publisher: Wurth Elektronik; Orientation: Horizontal; Connector Type: USB 3.0 Type A; Operating Temperature: -20 to 85 degC; Mounting Technology: SMT; Gender: Plug; Packaging: Tray
footprint 692112030100
pins: 1 VBUS, 2 D-, 3 D+, 4 GND, 5 StdA_SSRX-, 6 StdA_SSRX+, 7 GND_DRAIN, 8 StdA_SSTX-, 9 StdA_SSTX+, Shell Shield

## 692121030100
designator J?
USB 3.0 Type A Receptacle WR-COM, Horizontal, THT; Part Number: 692121030100; Rated Current: 0.25 A; Contact Resistance: 50 mOhm; Working Voltage: 30 VAC; ComponentLink1Description: Manufacturer; ComponentLink1URL: http://www.we-online.de; ComponentLink2Description: Datasheet; ComponentLink2URL: https://katalog.we-online.de/em/datasheet/692121030100.pdf; Published Date: September 2018; Publisher: Wurth Elektronik; Orientation: Horizontal; Connector Type: USB 3.0 Type A; Operating Temperature: -20 to 85 degC; Mounting Technology: THT; Gender: Receptacle; Packaging: Tape and Reel
footprint 692121030100
pins: 1 VBUS, 2 D-, 3 D+, 4 GND, 5 StdA_SSRX-, 6 StdA_SSRX+, 7 GND_DRAIN, 8 StdA_SSTX-, 9 StdA_SSTX+, Shell Shield

## 692121130100
designator J?
USB 3.0 Type A Receptacle WR-COM, Reverse Horizontal, SMT / THT, with Clips, with 0.14 mm Offset; Part Number: 692121130100; Rated Current: 0.25 A; Contact Resistance: 50 mOhm; Working Voltage: 30 VAC; ComponentLink1Description: Manufacturer; ComponentLink1URL: http://www.we-online.de; ComponentLink2Description: Datasheet; ComponentLink2URL: https://katalog.we-online.de/em/datasheet/692121130100.pdf; Published Date: September 2018; Publisher: Wurth Elektronik; Orientation: Reverse Horizontal; Connector Type: USB 3.0 Type A; Operating Temperature: -20 to 85 degC; Mounting Technology: SMT / THT; Gender: Receptacle; Packaging: Tape and Reel
footprint 692121130100
pins: 1 VBUS, 2 D-, 3 D+, 4 GND, 5 StdA_SSRX-, 6 StdA_SSRX+, 7 GND_DRAIN, 8 StdA_SSTX-, 9 StdA_SSTX+, Shell Shield

## 692121230100
designator J?
USB 3.0 Type A Receptacle WR-COM, Horizontal, THT, with Clips, with 1.04 mm Offset; Part Number: 692121230100; Rated Current: 0.25 A; Contact Resistance: 50 mOhm; Working Voltage: 30 VAC; ComponentLink1Description: Manufacturer; ComponentLink1URL: http://www.we-online.de; ComponentLink2Description: Datasheet; ComponentLink2URL: https://katalog.we-online.de/em/datasheet/692121230100.pdf; Published Date: September 2018; Publisher: Wurth Elektronik; Orientation: Horizontal; Connector Type: USB 3.0 Type A; Operating Temperature: -20 to 85 degC; Mounting Technology: THT; Gender: Receptacle; Packaging: Tape and Reel
footprint 692121230100
pins: 1 VBUS, 2 D-, 3 D+, 4 GND, 5 StdA_SSRX-, 6 StdA_SSRX+, 7 GND_DRAIN, 8 StdA_SSTX-, 9 StdA_SSTX+, Shell Shield

## 692121330100
designator J?
USB 3.0 Type A Receptacle WR-COM, Reverse Horizontal, SMT / THT, with Clips, with 1.75 mm Offset; Part Number: 692121330100; Rated Current: 0.25 A; Contact Resistance: 50 mOhm; Working Voltage: 30 VAC; ComponentLink1Description: Manufacturer; ComponentLink1URL: http://www.we-online.de; ComponentLink2Description: Datasheet; ComponentLink2URL: https://katalog.we-online.de/em/datasheet/692121330100.pdf; Published Date: September 2018; Publisher: Wurth Elektronik; Orientation: Reverse Horizontal; Connector Type: USB 3.0 Type A; Operating Temperature: -20 to 85 degC; Mounting Technology: SMT / THT; Gender: Receptacle; Packaging: Tape and Reel
footprint 692121330100
pins: 1 VBUS, 2 D-, 3 D+, 4 GND, 5 StdA_SSRX-, 6 StdA_SSRX+, 7 GND_DRAIN, 8 StdA_SSTX-, 9 StdA_SSTX+, Shell Shield

## 692121430000
designator J?
USB 3.0 Type A Receptacle WR-COM, Vertical, THT; Part Number: 692121430000; Rated Current: 0.25 A; Contact Resistance: 50 mOhm; Working Voltage: 30 VAC; ComponentLink1Description: Manufacturer; ComponentLink1URL: http://www.we-online.de; ComponentLink2Description: Datasheet; ComponentLink2URL: https://katalog.we-online.de/em/datasheet/692121430000.pdf; Published Date: September 2018; Publisher: Wurth Elektronik; Orientation: Vertical; Connector Type: USB 3.0 Type A; Operating Temperature: -20 to 85 degC; Mounting Technology: THT; Gender: Receptacle; Packaging: Tray
footprint 692121430000
pins: 1 VBUS, 2 D-, 3 D+, 4 GND, 5 StdA_SSRX-, 6 StdA_SSRX+, 7 GND_DRAIN, 8 StdA_SSTX-, 9 StdA_SSTX+, Shell Shield

## 692122030100
designator J?
USB 3.0 Type A Receptacle WR-COM, Horizontal, SMT, with Pegs; Part Number: 692122030100; Rated Current: 0.25 A; Contact Resistance: 50 mOhm; Working Voltage: 30 VAC; ComponentLink1Description: Manufacturer; ComponentLink1URL: http://www.we-online.de; ComponentLink2Description: Datasheet; ComponentLink2URL: https://katalog.we-online.de/em/datasheet/692122030100.pdf; Published Date: September 2018; Publisher: Wurth Elektronik; Orientation: Horizontal; Connector Type: USB 3.0 Type A; Operating Temperature: -20 to 85 degC; Mounting Technology: SMT; Gender: Receptacle; Packaging: Tape and Reel
footprint 692122030100
pins: 1 VBUS, 2 D-, 3 D+, 4 GND, 5 StdA_SSRX-, 6 StdA_SSRX+, 7 GND_DRAIN, 8 StdA_SSTX-, 9 StdA_SSTX+, Shell Shield

## 692141030100
designator J?
USB 3.0 Type A Receptacle WR-COM, Stacked Horizontal, THT; Part Number: 692141030100; Rated Current: 0.25 A; Contact Resistance: 50 mOhm; Working Voltage: 30 VAC; ComponentLink1Description: Manufacturer; ComponentLink1URL: http://www.we-online.de; ComponentLink2Description: Datasheet; ComponentLink2URL: https://katalog.we-online.de/em/datasheet/692141030100.pdf; Published Date: September 2018; Publisher: Wurth Elektronik; Orientation: Stacked Horizontal; Connector Type: USB 3.0 Type A; Operating Temperature: -40 to 85 degC; Mounting Technology: THT; Gender: Receptacle; Packaging: Tray
footprint 692141030100
pins: 1 VBUS, 2 D-, 3 D+, 4 GND, 5 StdA_SSRX-, 6 StdA_SSRX+, 7 GND_DRAIN, 8 StdA_SSTX-, 9 StdA_SSTX+, 10 VBUS, 11 D-, 12 D+, 13 GND, 14 StdA_SSRX-, 15 StdA_SSRX+, 16 GND_DRAIN, 17 StdA_SSTX-, 18 StdA_SSTX+, Shell Shield
text: Part 1; Part 2

## 692221030100
designator J?
USB 3.0 Type B Receptacle WR-COM, Horizontal, THT; Part Number: 692221030100; Rated Current: 0.25 A; Contact Resistance: 50 mOhm; Working Voltage: 30 VAC; ComponentLink1Description: Manufacturer; ComponentLink1URL: http://www.we-online.de; ComponentLink2Description: Datasheet; ComponentLink2URL: https://katalog.we-online.de/em/datasheet/692221030100.pdf; Published Date: September 2018; Publisher: Wurth Elektronik; Orientation: Horizontal; Connector Type: USB 3.0 Type B; Operating Temperature: -20 to 85 degC; Mounting Technology: THT; Gender: Receptacle; Packaging: Tray
footprint 692221030100
pins: 1 VBUS, 2 D-, 3 D+, 4 GND, 5 StdB_SSTX-, 6 StdB_SSTX+, 7 GND_DRAIN, 8 StdB_SSRX-, 9 StdB_SSRX+, Shell Shield

## 692622030100
designator J?
Micro USB 3.0 Type B Receptacle WR-COM, Horizontal, SMT, with Pads; Part Number: 692622030100; Rated Current: 0.25 A; Contact Resistance: 50 mOhm; Working Voltage: 30 VAC; ComponentLink1Description: Manufacturer; ComponentLink1URL: http://www.we-online.de; ComponentLink2Description: Datasheet; ComponentLink2URL: https://katalog.we-online.de/em/datasheet/692622030100.pdf; Published Date: September 2018; Publisher: Wurth Elektronik; Orientation: Horizontal; Connector Type: Micro USB 3.0 Type B; Operating Temperature: -20 to 85 degC; Mounting Technology: SMT; Gender: Receptacle; Packaging: Tape and Reel
footprint 692622030100
pins: 1 VBUS, 2 D-, 3 D+, 4 ID, 5 GND, 6 MicB_SSTX-, 7 MicB_SSTX+, 8 GND_DRAIN, 9 MicB_SSRX-, 10 MicB_SSRX+, Shell Shield

## 692622420101
designator J?
Micro USB 3.0 Type B Receptacle WR-COM, Vertical, SMT, with Pads and Pegs; Part Number: 692622420101; Rated Current: 0.25 A; Contact Resistance: 30 mOhm; Working Voltage: 30 VAC; ComponentLink1Description: Manufacturer; ComponentLink1URL: http://www.we-online.de; ComponentLink2Description: Datasheet; ComponentLink2URL: https://katalog.we-online.de/em/datasheet/692622420101.pdf; Published Date: September 2018; Publisher: Wurth Elektronik; Orientation: Vertical; Connector Type: Micro USB 3.0 Type B; Operating Temperature: -30 to 85 degC; Mounting Technology: SMT; Gender: Receptacle; Packaging: Tape and Reel
footprint 692622420101
pins: 1 VBUS, 2 D-, 3 D+, 4 ID, 5 GND, 6 MicB_SSTX-, 7 MicB_SSTX+, 8 GND_DRAIN, 9 MicB_SSRX-, 10 MicB_SSRX+, Shell Shield

## B05B-PASK
designator J?
JST PA, 5PIN SOCKET; LCSC Part #: C158045; Availability: None
footprint B05B-PASK (JST 5 PIN PA CONNECTOR LOCKING)
pins: 1, 2, 3, 4, 5

## B7B-PH-K-S
designator J?
JST PH, 2MM SOCKET, 7 Pin
footprint B7B-PH-K-S (2mm Micro JST 7 Pin Socket)
pins: 1, 2, 3, 4, 5, 6, 7

## BITSNAP_MPCIE
designator J?
PCIE Male Finger, Bitsnap Outline; Manufacturer: Kyocera; Manufacturer P/N: 245863050024829
footprint MINI_PCIE_BITSNAP_M
footprint MINI_PCIE_BITSNAP_M_DUAL_HOLE
footprint MINI_PCIE_BITSNAP_STANDALONE
pins: 1, 2, 3, 4, 5, 6, 7, 8, 9, 10, 11, 12, 13, 14, 15, 16, 17, 18, 19, 20, 21, 22, 23, 24, 25, 26, 27, 28, 29, 30, 31, 32, 33, 34, 35, 36, 37, 38, 39, 40, 41, 42, 43, 44, 45, 46, 47, 48, 49, 50, 51, 52

## BITSNAP_mPCIE_USB_SRC
designator U?, comment BITSNAP_PCIE_x4
Bitsnap mPCIE Backplane Edge Card; Manufacturer: Kyocera; Manufacturer P/N: 245863050024829
footprint BITSNAP_USB_HUB (Bitsnap, mPCIE)
pins: 1 USB2_DMU, 2 USB2_DM4, 3 USB2_DPU, 4 USB2_DP4, 5 USB2_DM8, 6 USB2_DM3, 7 USB2_DP8, 8 USB2_DP3, 9 USB2_DM7, 10 USB2_DM2, 11 USB2_DP7, 12 USB2_DP2, 13 USB2_DM5, 14 USB2_DM1, 15 USB2_DP5, 16 USB2_DP1, 17 xRSVD, 18 SYNC, 19 GND, 20 GND, 21 GND, 22 GND, 23 GND, 24 GND, 25 GND, 26 GND, 27 GND, 28 GND, 29 GND, 30 GND, 31 N/C, 32 N/C, 33 N/C, 34 N/C, 35 N/C, 36 N/C, 37 N/C, 38 N/C, 39 N/C, 40 N/C, 41 5V, 42 5V, 43 5V, 44 5V, 45 5V, 46 5V, 47 5V, 48 5V, 49 5V, 50 5V, 51 5V, 52 5V

## BITSNAP_PCIE(M)_x4
designator U?, comment BITSNAP_PCIE_x4
Bitsnap PCIE Backplane Edge Card; Manufacturer: Kyocera; Manufacturer P/N: 245863050024829
footprint PCIE(M)_BITSNAP_x4
footprint PCIE(M)_BITSNAP_UNPOPULATED
footprint PCIE(M)_BITSNAP_POPULATED
pins: 1 5V, 2 5V, 3 5V, 4 5V, 5 TMS, 6 USB2 D+, 7 TCK, 8 USB2 D-, 9 TDO, 10 SYNC, 11 TDI, 12 TRST#, 13 GND, 14 WAKE#, 15 GND, 16 GND, 17 PRSNT1#, 18 CLKREQ#, 19 REFCLK+, 20 GND, 21 REFCLK-, 22 HSOp(0), 23 GND, 24 HSOn(0), 25 HSIp(0), 26 GND, 27 HSIn(0), 28 PRSNT2#, 29 PERST#, 30 SMDAT, 31 12V, 32 SMCLK, 33 USB3 TX+, 34 3V3, 35 USB3 TX-, 36 3V3, 37 GND, 38 USB3 RX+, 39 GND, 40 USB3 RX-, 41 BI_DA+, 42 BI_DB+, 43 BI_DA-, 44 BI_DB-, 45 BI_DC+, 46 BI_DD+, 47 BI_DC-, 48 BI_DD-, 49 36V, 50 36V, 51 36V, 52 36V

## BITSNAP_PCIE(M)_x4_USB_SRC
designator U?, comment BITSNAP_PCIE_x4
Bitsnap PCIE Backplane Edge Card; Manufacturer: Kyocera; Manufacturer P/N: 245863050024829
footprint PCIE(M)_BITSNAP_UNPOPULATED
footprint PCIE(M)_BITSNAP_POPULATED_USB
footprint PCIE(M)_BITSNAP_x4_NO_BRIDGES
pins: 1 USB2_DM4, 2 USB2_DM5, 3 USB2_DP4, 4 USB2_DP5, 5 USB2_DM3, 6 USB2_DM6, 7 USB2_DP3, 8 USB2_DP6, 9 USB2_DM2, 10 USB2_DM7, 11 USB2_DP2, 12 USB2_DP7, 13 USB2_DM1, 14 USB2_DM8, 15 USB2_DP1, 16 USB2_DP8, 17 xRSVD, 18 SYNC, 19 GND, 20 GND, 21 GND, 22 GND, 23 GND, 24 GND, 25 GND, 26 GND, 27 GND, 28 GND, 29 GND, 30 GND, 31 5V, 32 5V, 33 5V, 34 5V, 35 5V, 36 5V, 37 5V, 38 5V, 39 5V, 40 5V, 41 36V, 42 36V, 43 36V, 44 36V, 45 36V, 46 36V, 47 36V, 48 36V, 49 36V, 50 36V, 51 36V, 52 36V

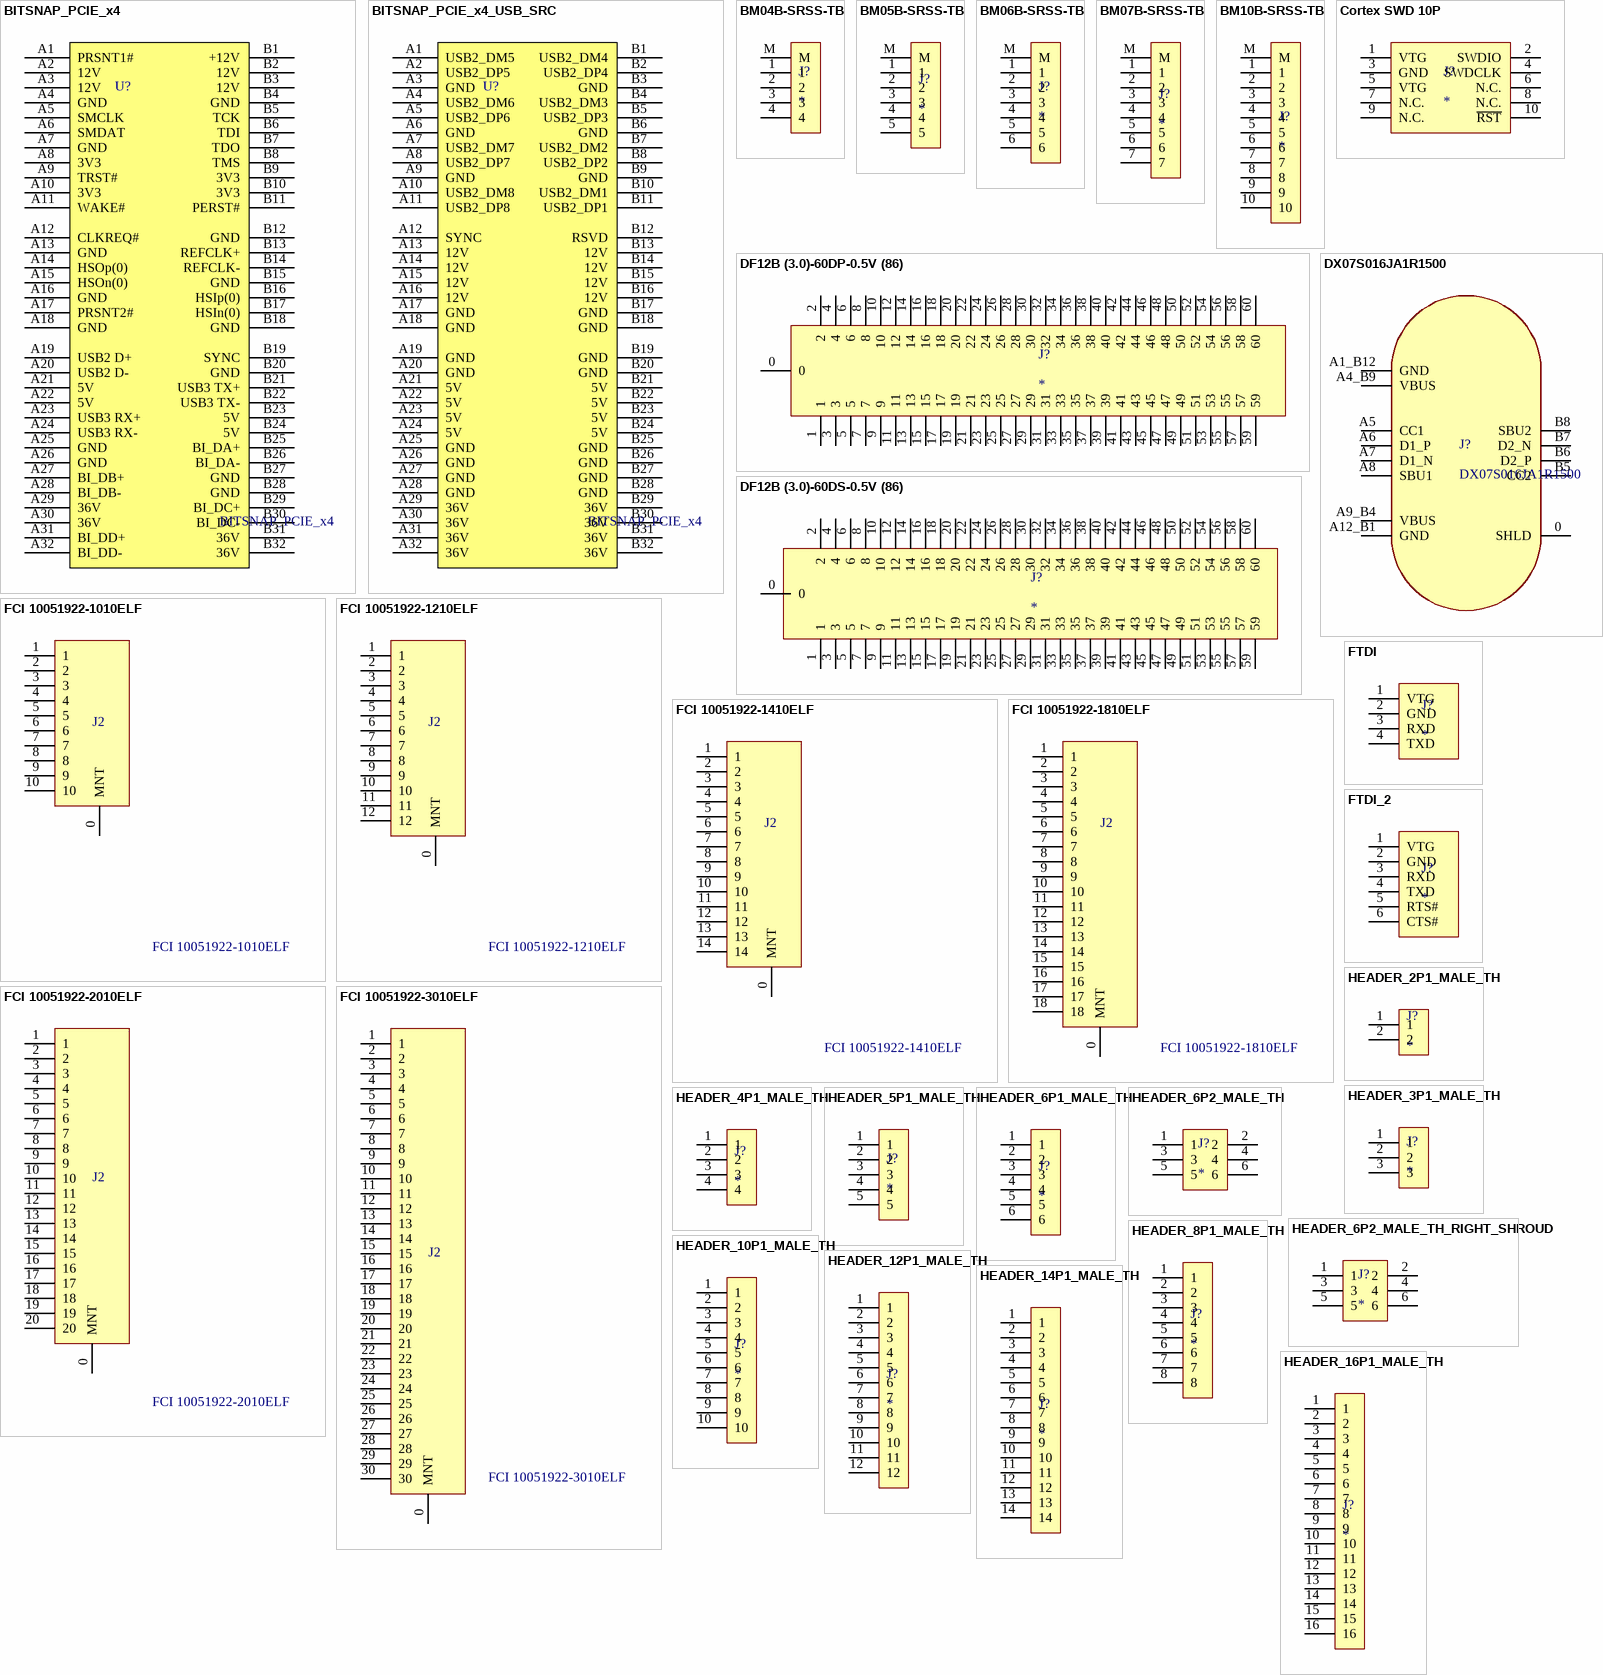
[diagram p2: symbols BITSNAP_PCIE_x4 to HEADER_16P1_MALE_TH]

## BITSNAP_PCIE_x4
designator U?
Bitsnap PCIE Backplane Edge Card; Manufacturer: Kyocera; Manufacturer P/N: 245863050024829
footprint PCIE_BITSNAP_x4
pins: A1 PRSNT1#, A2 12V, A3 12V, A4 GND, A5 SMCLK, A6 SMDAT, A7 GND, A8 3V3, A9 TRST#, A10 3V3, A11 WAKE#, A12 CLKREQ#, A13 GND, A14 HSOp(0), A15 HSOn(0), A16 GND, A17 PRSNT2#, A18 GND, A19 USB2 D+, A20 USB2 D-, A21 5V, A22 5V, A23 USB3 RX+, A24 USB3 RX-, A25 GND, A26 GND, A27 BI_DB+, A28 BI_DB-, A29 36V, A30 36V, A31 BI_DD+, A32 BI_DD-, B1 +12V, B2 12V, B3 12V, B4 GND, B5 TCK, B6 TDI, B7 TDO, B8 TMS, B9 3V3, B10 3V3, B11 PERST#, B12 GND, B13 REFCLK+, B14 REFCLK-, B15 GND, B16 HSIp(0), B17 HSIn(0), B18 GND, B19 SYNC, B20 GND, B21 USB3 TX+, B22 USB3 TX-, B23 5V, B24 5V, B25 BI_DA+, B26 BI_DA-, B27 GND, B28 GND, B29 BI_DC+, B30 BI_DC-, B31 36V, B32 36V

## BITSNAP_PCIE_x4_USB_SRC
designator U?, comment BITSNAP_PCIE_x4
Bitsnap PCIE Backplane Edge Card USB HUB; Manufacturer: Kyocera; Manufacturer P/N: 245863050024829
footprint PCIE_BITSNAP_x4
footprint 10018784-10211TLF (PCIE x4 Vertical)
pins: A1 USB2_DM5, A2 USB2_DP5, A3 GND, A4 USB2_DM6, A5 USB2_DP6, A6 GND, A7 USB2_DM7, A8 USB2_DP7, A9 GND, A10 USB2_DM8, A11 USB2_DP8, A12 SYNC, A13 12V, A14 12V, A15 12V, A16 12V, A17 GND, A18 GND, A19 GND, A20 GND, A21 5V, A22 5V, A23 5V, A24 5V, A25 GND, A26 GND, A27 GND, A28 GND, A29 36V, A30 36V, A31 36V, A32 36V, B1 USB2_DM4, B2 USB2_DP4, B3 GND, B4 USB2_DM3, B5 USB2_DP3, B6 GND, B7 USB2_DM2, B8 USB2_DP2, B9 GND, B10 USB2_DM1, B11 USB2_DP1, B12 RSVD, B13 12V, B14 12V, B15 12V, B16 12V, B17 GND, B18 GND, B19 GND, B20 GND, B21 5V, B22 5V, B23 5V, B24 5V, B25 GND, B26 GND, B27 GND, B28 GND, B29 36V, B30 36V, B31 36V, B32 36V

## BM04B-SRSS-TB
designator J?
JST SH 4PIN VERTICAL; LCSC Part #: C160390; Availability: None
footprint BM04B-SRSS-TB (JST SH 1.0MM 4P VERTICAL)
pins: 1, 2, 3, 4, M

## BM05B-SRSS-TB
designator J?
JST SH 5PIN VERTICAL; LCSC Part #: C160390; Availability: None
footprint BM05B-SRSS-TB (JST SH 1.0MM 5P VERTICAL)
pins: 1, 2, 3, 4, 5, M

## BM06B-SRSS-TB
designator J?
JST SH 6PIN VERTICAL; LCSC Part #: C160392; Availability: None
footprint BM06B-SRSS-TB (JST SH 1MM CONN HEADER 6POS TOP)
pins: 1, 2, 3, 4, 5, 6, M

## BM07B-SRSS-TB
designator J?
JST SH 7PIN VERTICAL; LCSC Part #: C160393; Availability: None
footprint BM07B-SRSS-TB (JST SH 1.0MM 7P VERTICAL)
pins: 1, 2, 3, 4, 5, 6, 7, M

## BM10B-SRSS-TB
designator J?
JST SH 10PIN VERTICAL; LCSC Part #: C160396; Availability: None
footprint BM10B-SRSS-TB (JST SH 1.0MM 10P VERTICAL)
pins: 1, 2, 3, 4, 5, 6, 7, 8, 9, 10, M

## Cortex SWD 10P
designator J?
HEADER, 1.27MM, SMT, 10PIN 2ROW
footprint M50-3600542 (Header 1.27mm 10P)
pins: 1 VTG, 2 SWDIO, 3 GND, 4 SWDCLK, 5 VTG, 6 N.C., 7 N.C., 8 N.C., 9 N.C., 10 ~{RST}

## DF12B (3.0)-60DP-0.5V (86)
designator J?
Board to Board & Mezzanine Connectors 60P V SMT DR MALE 3.0MM
footprint DF12B(3.0)-60DP-0.5V(86)
pins: 0, 1, 2, 3, 4, 5, 6, 7, 8, 9, 10, 11, 12, 13, 14, 15, 16, 17, 18, 19, 20, 21, 22, 23, 24, 25, 26, 27, 28, 29, 30, 31, 32, 33, 34, 35, 36, 37, 38, 39, 40, 41, 42, 43, 44, 45, 46, 47, 48, 49, 50, 51, 52, 53, 54, 55, 56, 57, 58, 59, 60

## DF12B (3.0)-60DS-0.5V (86)
designator J?
Board to Board & Mezzanine Connectors 60P V SMT DR FEMALE 3.0MM
footprint DF12B(3.0)-60DS-0.5V(86) (Male)
pins: 0, 1, 2, 3, 4, 5, 6, 7, 8, 9, 10, 11, 12, 13, 14, 15, 16, 17, 18, 19, 20, 21, 22, 23, 24, 25, 26, 27, 28, 29, 30, 31, 32, 33, 34, 35, 36, 37, 38, 39, 40, 41, 42, 43, 44, 45, 46, 47, 48, 49, 50, 51, 52, 53, 54, 55, 56, 57, 58, 59, 60

## DX07S016JA1R1500
designator J?
USB, Type C, Recepticle, SMT, 90°
footprint DX07S016JA1R1500 (USB-C (USB TYPE-C) USB 2.0 Receptacle Connector 24 (16+8 Dummy) Position Surface Mount, Right Angle)
pins: 0 SHLD, A1_B12 GND, A4_B9 VBUS (power), A5 CC1, A6 D1_P, A7 D1_N, A8 SBU1, A9_B4 VBUS (power), A12_B1 GND, B5 CC2, B6 D2_P, B7 D2_N, B8 SBU2

## FCI 10051922-1010ELF
designator J2
FCI, Right Angle, 10POS, 0.5mm; Manufacturer P/N: 10051922-1210ELF; P/N: CONN_0043; Display Value: FCI 10051922-1210ELF; Mounting Height: 1.3mm; Temp Range: -55C - 85C; Rows: 1; Manufacturer: FCI; Type: FPC; Direction: Right Angle; Pins: 12; Mounting Type: SMD; RoHS: True; Supplier: Digikey; Supplier P/N: 609-1236-6-ND; Supplier Price: 0.53; Datasheet: http://portal.fciconnect.com/Comergent//fci/drawing/10051922.pdf; Date: 6/3/2014; Author: NR; Pitch: 0.5mm
footprint FCI 10051922-1010ELF
pins: 0 MNT, 1, 2, 3, 4, 5, 6, 7, 8, 9, 10

## FCI 10051922-1210ELF
designator J2
FCI, Right Angle, 12POS, 0.5mm; P/N: CONN_0043; Mounting Height: 1.3mm; Temp Range: -55C - 85C; Rows: 1; Display Value: FCI 10051922-1210ELF; Manufacturer: FCI; Manufacturer P/N: 10051922-1210ELF; Type: FPC; Direction: Right Angle; Pins: 12; Mounting Type: SMD; RoHS: True; Supplier: Digikey; Supplier P/N: 609-1236-6-ND; Supplier Price: 0.53; Datasheet: http://portal.fciconnect.com/Comergent//fci/drawing/10051922.pdf; Date: 6/3/2014; Author: NR; Pitch: 0.5mm
footprint FCI 10051922-1210ELF
pins: 0 MNT, 1, 2, 3, 4, 5, 6, 7, 8, 9, 10, 11, 12

## FCI 10051922-1410ELF
designator J2
FCI, Right Angle, 14POS, 0.5mm; P/N: CONN_0043; Display Value: FCI 10051922-1210ELF; Mounting Height: 1.3mm; Temp Range: -55C - 85C; Rows: 1; Manufacturer: FCI; Manufacturer P/N: 10051922-1410ELF; Type: FPC; Direction: Right Angle; Pins: 12; Mounting Type: SMD; RoHS: True; Supplier: Digikey; Supplier P/N: 609-1236-6-ND; Supplier Price: 0.53; Datasheet: http://portal.fciconnect.com/Comergent//fci/drawing/10051922.pdf; Date: 6/3/2014; Author: NR; Pitch: 0.5mm
footprint FCI 10051922-1410ELF
pins: 0 MNT, 1, 2, 3, 4, 5, 6, 7, 8, 9, 10, 11, 12, 13, 14

## FCI 10051922-1810ELF
designator J2
FCI, Right Angle, 18POS, 0.5mm; P/N: CONN_0043; Mounting Height: 1.3mm; Temp Range: -55C - 85C; Rows: 1; Manufacturer: FCI; Type: FPC; Direction: Right Angle; Mounting Type: SMD; RoHS: True; Supplier: Digikey; Supplier Price: 0.53; Datasheet: http://portal.fciconnect.com/Comergent//fci/drawing/10051922.pdf; Date: 6/3/2014; Author: NR; Pitch: 0.5mm
footprint FCI 10051922-1810ELF
pins: 0 MNT, 1, 2, 3, 4, 5, 6, 7, 8, 9, 10, 11, 12, 13, 14, 15, 16, 17, 18

## FCI 10051922-2010ELF
designator J2
FCI, Right Angle, 20POS, 0.5mm; P/N: CONN_0043; Mounting Height: 1.3mm; Temp Range: -55C - 85C; Rows: 1; Display Value: FCI 10051922-2010ELF; Manufacturer: FCI; Manufacturer P/N: 10051922-2010ELF; Type: FPC; Direction: Right Angle; Pins: 20; Mounting Type: SMD; RoHS: True; Supplier: Digikey; Supplier Price: 0.53; Datasheet: http://portal.fciconnect.com/Comergent//fci/drawing/10051922.pdf; Date: 6/3/2014; Author: NR; Pitch: 0.5mm
footprint FCI 10051922-2010ELF
pins: 0 MNT, 1, 2, 3, 4, 5, 6, 7, 8, 9, 10, 11, 12, 13, 14, 15, 16, 17, 18, 19, 20

## FCI 10051922-3010ELF
designator J2
FCI, Right Angle, 30POS, 0.5mm; Manufacturer P/N: 10051922-2010ELF; P/N: CONN_0043; Display Value: FCI 10051922-2010ELF; Mounting Height: 1.3mm; Temp Range: -55C - 85C; Rows: 1; Manufacturer: FCI; Type: FPC; Direction: Right Angle; Pins: 20; Mounting Type: SMD; RoHS: True; Supplier: Digikey; Supplier Price: 0.53; Datasheet: http://portal.fciconnect.com/Comergent//fci/drawing/10051922.pdf; Date: 6/3/2014; Author: NR; Pitch: 0.5mm
footprint FCI 10051922-3010ELF
pins: 0 MNT, 1, 2, 3, 4, 5, 6, 7, 8, 9, 10, 11, 12, 13, 14, 15, 16, 17, 18, 19, 20, 21, 22, 23, 24, 25, 26, 27, 28, 29, 30

## FTDI
designator J?
FTDI
footprint HEADER_4P_SMT (SMT HEADER 4P)
pins: 1 VTG, 2 GND, 3 RXD, 4 TXD

## FTDI_2
designator J?
FTDI_2
footprint HEADER_6P_SMT (SMT HEADER 6P)
pins: 1 VTG, 2 GND, 3 RXD, 4 TXD, 5 RTS#, 6 CTS#

## HEADER_2P1_MALE_TH
designator J?
HEADER, 2.54MM, THT, 2PIN 1ROW
footprint HEADER_2P1_MALE_TH (Through Hole Header 2 Pin 1 Row 2.54mm)
footprint HEADER_2P1_FEMALE_TH (Through Hole Header 2 Pin 1 Row 2.54mm)
pins: 1, 2

## HEADER_3P1_MALE_TH
designator J?
HEADER, 2.54MM, THT, 3PIN 1ROW
footprint HEADER_3P1_MALE_TH (Through Hole Header 3 Pin 1 Row 2.54mm)
footprint HEADER_3P1_FEMALE_TH (Through Hole Header 3 Pin 1 Row 2.54mm)
pins: 1, 2, 3

## HEADER_4P1_MALE_TH
designator J?
HEADER, 2.54MM, THT, 4PIN 1ROW
footprint HEADER_4P1_MALE_TH (Through Hole Header 4 Pin 1 Row 2.54mm)
footprint HEADER_4P1_FEMALE_TH (Through Hole Header 4 Pin 1 Row 2.54mm)
pins: 1, 2, 3, 4

## HEADER_5P1_MALE_TH
designator J?
HEADER, 2.54MM, THT, 5PIN 1ROW
footprint HEADER_5P1_MALE_TH (Through Hole Header 5 Pin 1 Row 2.54mm)
footprint HEADER_5P1_FEMALE_TH (Through Hole Header 5 Pin 1 Row 2.54mm)
pins: 1, 2, 3, 4, 5

## HEADER_6P1_MALE_TH
designator J?
HEADER, 2.54MM, THT, 6PIN 1ROW
footprint HEADER_6P1_MALE_TH (Through Hole Header 6 Pin 1 Row 2.54mm)
pins: 1, 2, 3, 4, 5, 6

## HEADER_6P2_MALE_TH
designator J?
HEADER, 2.54MM, THT, 6PIN 1ROW
footprint HEADER_6P2_MALE_TH (Through Hole Header 6 Pin 2 Row 2.54mm)
pins: 1, 2, 3, 4, 5, 6

## HEADER_6P2_MALE_TH_RIGHT_SHROUD
designator J?
HEADER, 2.54MM, THT, 6PIN 1ROW
footprint HEADER_6P2_MALE_TH_RIGHT_SHROUD (Through Hole Header 6 Pin 2 Row 2.54mm Right Angle Shrouded)
pins: 1, 2, 3, 4, 5, 6

## HEADER_8P1_MALE_TH
designator J?
HEADER, 2.54MM, THT, 8PIN 1ROW
footprint HEADER_8P1_MALE_TH (Through Hole Header 8 Pin 1 Row 2.54mm)
pins: 1, 2, 3, 4, 5, 6, 7, 8